# Altium footprint library INDPM125125X800N.PcbLib: 1 footprints
Each footprint in its own frame and in the unit in brackets; x right, y up, seen from the top. Pads: shape width x height; smd on the part's side, far side on the other; paste and mask are expansions set on the pad; w line width, h text height; cw(c..) or ccw(c..) is an arc to the next point about the centre after c.
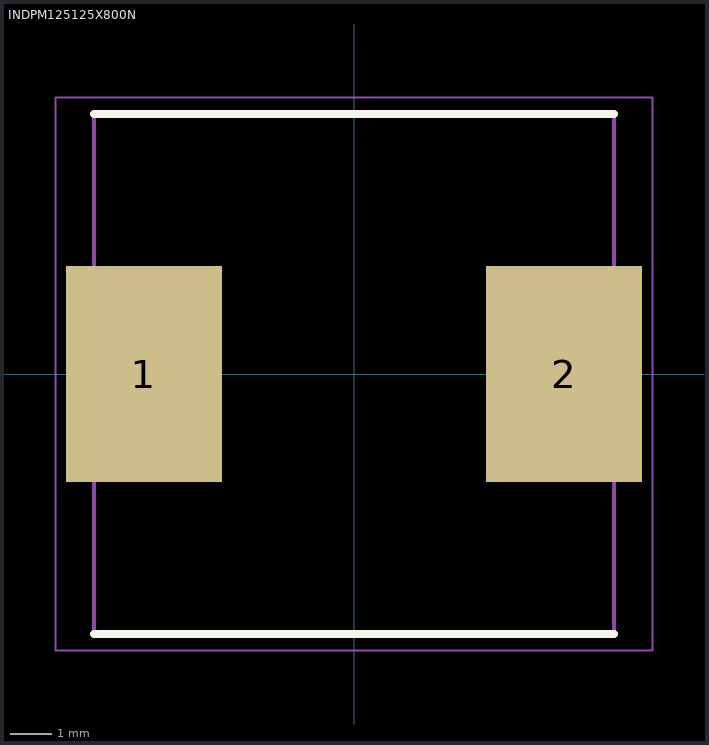
[diagram p0: the footprint, top view; thin cyan lines are the x and y axes]

## INDPM125125X800N [mm]
pads (2):
  rect 3.75x5.2 smd: 1(-5.05,0) 2(5.05,0)
Top Overlay:
  lines w0.2: -6.25,-6.25 6.25,-6.25 ; -6.25,6.25 6.25,6.25
Mechanical 13:
  lines w0.05: -7.175,-6.65 -7.175,6.65 7.175,6.65 7.175,-6.65 -7.175,-6.65
  lines w0.1: -6.25,-6.25 -6.25,6.25 6.25,6.25 6.25,-6.25 -6.25,-6.25
3D body "IND_BOURNS_SRR1280.step": height 8, standoff 0, extent -6.401,-6.403 6.401,6.403